# Altium schematic symbol library AMS_LV.SchLib: 26 symbols
Pins are listed as number, name and electrical type; pins without a type are passive.

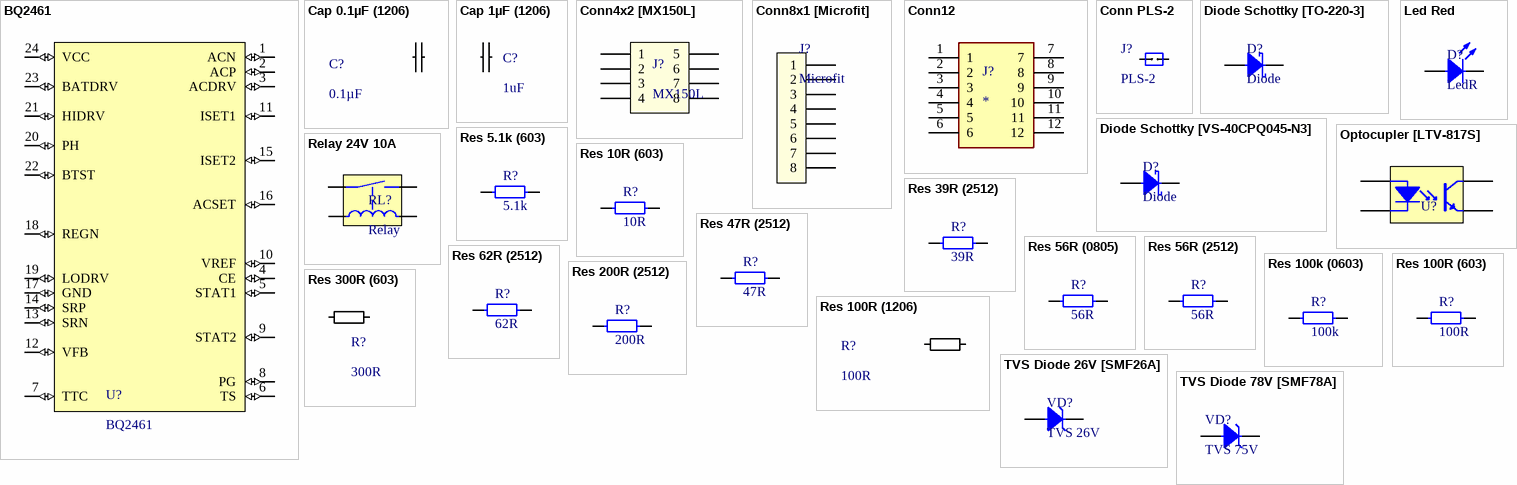
[diagram p0: symbols BQ2461 to TVS Diode 78V [SMF78A]]

## BQ2461
designator U?
1 to 6 cells, Charge voltage 2.1 to 26v, Input voltage range 5 to 28v, Input overvoltage 32v, Maximum battery / charging current 10a, I(in DPM), Switching / frequency (kHz) 600, temprature -40 to 85; ComponentLink1Description: ChipDip; ComponentLink1URL: *https://www.chipdip.ru/product0/8001867666; ComponentLink2Description: Datasheet; ComponentLink2URL: https://www.ti.com/lit/ds/symlink/bq24610.pdf?HQS=dis-mous-null-mousermode-dsf-pf-null-wwe&ts=1616152052942
footprint VQFN-24
pins: 1 ACN (io) "PA3/USART1_RX/ADC_IN3", 2 ACP (io) "PA2/USART1_TX/ADC_IN2", 3 ACDRV (io) "PF0-OSC_IN(PF0)/OSC_IN", 4 CE (io) "PA1/USART1_RTS,EVENTOUT/ADC_IN1", 5 STAT1 (io) "Device reset input / internal reset output (active low)", 6 TS (io) "Device reset input / internal reset output (active low)", 7 TTC (io) "Device reset input / internal reset output (active low)", 8 PG (io) "Device reset input / internal reset output (active low)", 9 STAT2 (io) "Device reset input / internal reset output (active low)", 10 VREF (io) "PA0/USART1_CTS/ADC_IN0,RTC_TAMP2,WKUP1", 11 ISET1 (io) "PA9/USART1_TX,TIM1_CH2,I2C1_SCL", 12 VFB (io) "PA5/SPI1_SCK/ADC_IN5", 13 SRN (io) "PA7/SPI1_MOSI,TIM3_CH2,TIM14_CH1,TIM1_CH1N,TIM17_CH1,EVENTOUT/ADC_IN7", 14 SRP (io) "PA6/SPI1_MISO,TIM3_CH1,TIM1_BKIN,TIM16_CH1,EVENTOUT/ADC_IN6", 15 ISET2 (io) "PA10/USART1_RX,TIM1_CH3,TIM17_BKIN,I2C1_SDA", 16 ACSET (io) "PA4/SPI1_NSS,USART1_CK,TIM14_CH1/ADC_IN4", 17 GND (io) "Device reset input / internal reset output (active low)", 18 REGN (io) "Device reset input / internal reset output (active low)", 19 LODRV (io) "Device reset input / internal reset output (active low)", 20 PH (io) "Device reset input / internal reset output (active low)", 21 HIDRV (io) "Device reset input / internal reset output (active low)", 22 BTST (io) "Boot memory selection", 23 BATDRV (io) "PF1-OSC_OUT(PF1)/OSC_OUT", 24 VCC (io) "PB1/TIM3_CH4,TIM14_CH1,TIM1_CH3N/ADC_IN9"

## Cap 0.1µF (1206)
designator C?, comment 0.1µF
CERAMIC CAPACITOR 0.1uF, 100V, 10%, 1206; ComponentLink1Description: ChipDip; ComponentLink1URL: https://www.chipdip.ru/product/ld061c104kab2a; ComponentLink2Description: DataSheet; ComponentLink2URL: http://www.farnell.com/datasheets/2097579.pdf; Type: Capacitor
footprint Cap 0.1µF (1206)
pins: 1, 2

## Cap 1µF (1206)
designator C?, comment 1uF
1uF 100V 10%; Type: Capacitor; ComponentLink1Description: Chip Dip; ComponentLink1URL: https://www.chipdip.ru/product/12061c105k4z2a-smd-mlcc-1206-100v-x7r-1u-1; ComponentLink2Description: Datasheet; ComponentLink2URL: http://www.farnell.com/datasheets/2237835.pdf
footprint Cap 0.1µF (1206)
pins: 1, 2

## Conn4x2 [MX150L]
designator J?, comment MX150L
5.84mm Pitch MX150L Right-Angle PCB Header, Dual Row, without PCB Flange, 8 Circuits; Part Number: 194270017; Manufacturer: Molex; Type: Connector; ComponentLink1Description: Molex; ComponentLink1URL: https://www.molex.com/molex/products/part-detail/pcb_headers/0194270017
footprint Conn4x2 [MX150L]
footprint Conn 4x2 [MX150L]
pins: 1, 2, 3, 4, 5, 6, 7, 8

## Conn8x1 [Microfit]
designator J?, comment Microfit
Micro-Fit 3.0 Right-Angle Header, 3.00mm Pitch, Single Row, 8 Circuits, with Snap-in Plastic Peg PCB Lock, Tin, Glow-Wire Capable, Black; Part Number: 436500800; Manufacturing: Molex; ComponentLink1Description: Molex; ComponentLink1URL: https://www.molex.com/molex/products/part-detail/pcb_headers/0436500800; Type: Connector
footprint MOLEXMICROFIT 8x1
pins: 1, 2, 3, 4, 5, 6, 7, 8

## Conn12
designator J?
PCB terminal block, bushing, M5; Manufacturer_Name: Wurth Elektronik*; Manufacturer_Part_Number: 7460408; Datasheet link: http://katalog.we-online.com/em/datasheet/7460408.pdf; ComponentLink1Description: ChipDip; ComponentLink1URL: https://www.chipdip.ru/product/7460408-1; ComponentLink2Description: Datasheet; ComponentLink2URL: http://www.farnell.com/datasheets/1736664.pdf; Height: 6mm; Mouser Part Number: 710-7460408; Mouser Price/Stock: https://www.mouser.co.uk/ProductDetail/Wurth-Elektronik/7460408?qs=lykWx4dhCCG7IAhyxQ5B4w%3D%3D; Type: Terminal block
footprint 7460408
pins: 1, 2, 3, 4, 5, 6, 7, 8, 9, 10, 11, 12

## Conn PLS-2
designator J?, comment PLS-2
PLS-2 (DS1021-1x2); ComponentLink1Description: ChipDip; ComponentLink1URL: https://www.chipdip.ru/product/pls-2?yclid=7505697924270808350&utm_source=direct&utm_medium=cpc&position_type=premium%7Ck50id%7C010000001264065_Все%7Ccid%7C50598766%7Cgid%7C4147825070%7Caid%7C8822723075%7Csrc%7Csearch_none&utm_campaign=Y_dinamicheskaya&utm_content=text4_ya&utm_term=; ComponentLink2Description: Datasheet; ComponentLink2URL: https://static.chipdip.ru/lib/977/DOC005977245.pdf; Type: Connector
footprint Conn PLS-2
pins: 1, 2

## Diode Schottky [TO-220-3]
designator D?, comment Diode
Diode Schottky 2 x 20A 45V; ComponentLink1Description: ChipDip; ComponentLink1URL: https://www.chipdip.ru/product/vs-40ctq045-m3-vishay; ComponentLink2Description: DataSheet; ComponentLink2URL: https://static.chipdip.ru/lib/208/DOC005208502.pdf
footprint TO-220-3
pins: 1, 2

## Diode Schottky [VS-40CPQ045-N3]
designator D?, comment Diode
Diode Schottky 45V 40A; ComponentLink1Description: Mouser; ComponentLink1URL: https://ru.mouser.com/ProductDetail/Vishay-Semiconductors/VS-40CPQ045-N3?qs=asPD7ZL2j3UPfeMmvRbmZw%3D%3D; Type: Diode
footprint TO-247AC-3
footprint TO-247AC-3
pins: 1, 2

## Led Red
designator D?, comment LedR
Led Red SMD 1608,  120°, 630nM; Type: Diode; ComponentLink1Description: ChipDip; ComponentLink1URL: https://www.chipdip.ru/product/to-1608bc-mre; ComponentLink2Description: Datasheet; ComponentLink2URL: https://static.chipdip.ru/lib/736/DOC002736044.pdf
footprint LED(0805)
pins: 1, 2

## Optocupler [LTV-817S]
designator U?, comment Opt  (value not drawn)
LTV-817S, 5000 Vrms, SMD-4, 4-pin, -30...+110 degC; ComponentLink1Description: ChipDip; ComponentLink1URL: https://www.chipdip.ru/product0/8001777801; ComponentLink2Description: Datasheet; ComponentLink2URL: https://static6.arrow.com/aropdfconversion/acb51fbce558b47de527fd2f65fc66930fdd9300/2s_110_ltv-817202082720208472020m20s20s-ta20s-t.pdf
footprint Optocupler [LTV-817S]
pins: 1 ANODE, 2 CATHODE, 3 EMITTER, 4 COLLECTOR

## Relay 24V 10A
designator RL?, comment Relay
High ratings: 12A 125VAC, 10A 277VAC/30VDC, / TV-5, 1/4HP 125/250VAC.; ComponentLink1Description: ChipDip; ComponentLink1URL: https://www.chipdip.ru/product/834-1a-b-c-24vdc; ComponentLink2Description: Datasheet; ComponentLink2URL: https://static.chipdip.ru/lib/156/DOC000156754.pdf; Type: Relay
footprint Relay(834-1A-B-C 24VDC)
pins: 1, 2, 3, 4

## Res 5.1k (603)
designator R?, comment 5.1k
0.1W 0603 5.1 kOhm, 1%; ComponentLink1Description: ChipDip; ComponentLink1URL: https://www.chipdip.ru/product0/9000079729; ComponentLink2Description: Datasheet; ComponentLink2URL: https://static.chipdip.ru/lib/788/DOC004788200.pdf; Type: Resistor
footprint RES 5.1k (603)
pins: 1, 2

## Res 10R (603)
designator R?, comment 10R
603 10R 75V; ComponentLink1Description: ChipDip; ComponentLink1URL: https://www.chipdip.ru/product/crcw060310r0fkea; ComponentLink2Description: Datasheet; ComponentLink2URL: http://www.farnell.com/datasheets/2310790.pdf; Type: Resistor
footprint RES 10R (603)
pins: 1, 2

## Res 39R (2512)
designator R?, comment 39R
2512 47R 1%; ComponentLink1Description: ChipDip; ComponentLink1URL: https://www.chipdip.ru/product0/9000190077?from=suggest_product; ComponentLink2Description: Datasheet; ComponentLink2URL: https://static.chipdip.ru/lib/788/DOC004788200.pdf; Type: Resistor
footprint RES 39R (2512)
pins: 1, 2

## Res 47R (2512)
designator R?, comment 47R
2512 47R 1%; ComponentLink1Description: ChipDip; ComponentLink1URL: https://www.chipdip.ru/product0/9000190081; ComponentLink2Description: Datasheet; ComponentLink2URL: https://static.chipdip.ru/lib/788/DOC004788200.pdf; Type: Resistor
footprint RES 47R (2512)
pins: 1, 2

## Res 56R (0805)
designator R?, comment 56R
0.125W 0805 56R, 1%; ComponentLink1Description: ChipDip; ComponentLink1URL: https://www.chipdip.ru/product0/9000079456; ComponentLink2Description: Datasheet; ComponentLink2URL: https://static.chipdip.ru/lib/788/DOC004788200.pdf; Type: Resistor
footprint RES (0805)
pins: 1, 2

## Res 56R (2512)
designator R?, comment 56R
2512 56R 1%; ComponentLink1Description: ChipDip; ComponentLink1URL: https://www.chipdip.ru/product0/9000190084; ComponentLink2Description: Datasheet; ComponentLink2URL: https://static.chipdip.ru/lib/788/DOC004788200.pdf; Type: Resistor
footprint RES 47R (2512)
pins: 1, 2

## Res 62R (2512)
designator R?, comment 62R
2512 62R 5%; ComponentLink1Description: ChipDip; ComponentLink1URL: https://www.chipdip.ru/product0/9000190087; ComponentLink2Description: Datasheet; ComponentLink2URL: https://static.chipdip.ru/lib/788/DOC004788200.pdf; Type: Resistor
footprint Res 62R (2512)
pins: 1, 2

## Res 100k (0603)
designator R?, comment 100k
0603 100k R 1%; ComponentLink1Description: ChipDip; ComponentLink1URL: https://www.chipdip.ru/product0/9000079760; ComponentLink2Description: Datasheet; ComponentLink2URL: https://static.chipdip.ru/lib/788/DOC004788200.pdf
footprint Res 300R (603)
pins: 1, 2

## Res 100R (603)
designator R?, comment 100R
603 100R 1% 0.1W; ComponentLink1Description: ChipDip; ComponentLink1URL: https://www.chipdip.ru/product0/9000079616; ComponentLink2Description: Datasheet; ComponentLink2URL: https://static.chipdip.ru/lib/788/DOC004788200.pdf; Type: Resistor
footprint RES 100R (603)
pins: 1, 2

## Res 100R (1206)
designator R?, comment 100R
1206 100R 1%; ComponentLink1Description: Chip Dip; ComponentLink1URL: https://www.chipdip.ru/product/cr1206-fx-1000elf-smd-1206-thick-film-resis; ComponentLink2Description: Datasheet; ComponentLink2URL: http://www.farnell.com/datasheets/2178762.pdf; Type: Resistor
footprint Res 100R (1206)
pins: 1, 2

## Res 200R (2512)
designator R?, comment 200R
2512 200R 5%; ComponentLink1Description: ChipDip; ComponentLink1URL: https://www.chipdip.ru/product0/9000189985; ComponentLink2Description: Datasheet; ComponentLink2URL: https://static.chipdip.ru/lib/788/DOC004788200.pdf; Type: Resistor
footprint RES 200R (2512)
pins: 1, 2

## Res 300R (603)
designator R?, comment 300R
0603 300R 1%; ComponentLink1Description: ChipDip; ComponentLink1URL: https://www.chipdip.ru/product0/9000079627; ComponentLink2Description: DataSheet; ComponentLink2URL: https://static.chipdip.ru/lib/788/DOC004788200.pdf; Type: Resistor
footprint Res 300R (603)
pins: 1, 2

## TVS Diode 26V [SMF26A]
designator VD?, comment TVS 26V
SMF26A 200W; Type: Diode; ComponentLink1Description: ChipDip; ComponentLink1URL: https://www.chipdip.ru/product/smf26a; ComponentLink2Description: Datasheet; ComponentLink2URL: https://static.chipdip.ru/lib/152/DOC001152952.pdf
footprint TVS Diode 24V [SMF24A]
footprint TVS Diode 26V [SMF26A]
pins: 1, 2

## TVS Diode 78V [SMF78A]
designator VD?, comment TVS 75V
175W SMF78A; Type: Diode; ComponentLink1Description: ChipDip; ComponentLink1URL: https://www.chipdip.ru/product/smf78a; ComponentLink2Description: Datasheet; ComponentLink2URL: https://static.chipdip.ru/lib/152/DOC001152952.pdf
footprint TVS Diode 78V [SMF78A]
pins: 1, 2